# Altium schematic symbol library ADA4940-1ARZ.SchLib: 2 symbols
Pins are listed as number, name and electrical type; pins without a type are passive.

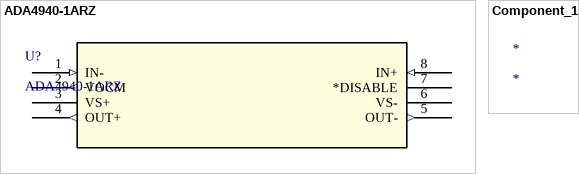
[diagram p0: symbols ADA4940-1ARZ to Component_1]

## ADA4940-1ARZ
designator U?
No Description Available; Mfr_Name: Analog Devices Inc; Copyright: Copyright (C) 2022 Ultra Librarian. All rights reserved.; Manufacturer_Part_Number: ADA4940-1ARZ; Digi-Key_Part_Number_1: ADA4940-1ARZ-ND; RefDes: RefDes; Type: DEV
footprint R_8_ADI
pins: 1 IN- (in), 2 VOCM (out), 3 VS+ (power), 4 OUT+ (out), 5 OUT- (out), 6 VS- (power), 7 *DISABLE, 8 IN+ (in)

## Component_1
designator *